# Altium footprint library Default.PcbLib: 1 footprints
Each footprint in its own frame and in the unit in brackets; x right, y up, seen from the top. Pads: shape width x height; smd on the part's side, far side on the other; paste and mask are expansions set on the pad; w line width, h text height; cw(c..) or ccw(c..) is an arc to the next point about the centre after c.

## _Example [mm] "Example Component"
height 0.508
Top Designator:
  text ".Designator" at -3.242,-0.317 h0.89